# EAGLE library part SD-MOTHERBOARD-HEADER (library nintendo-classic)
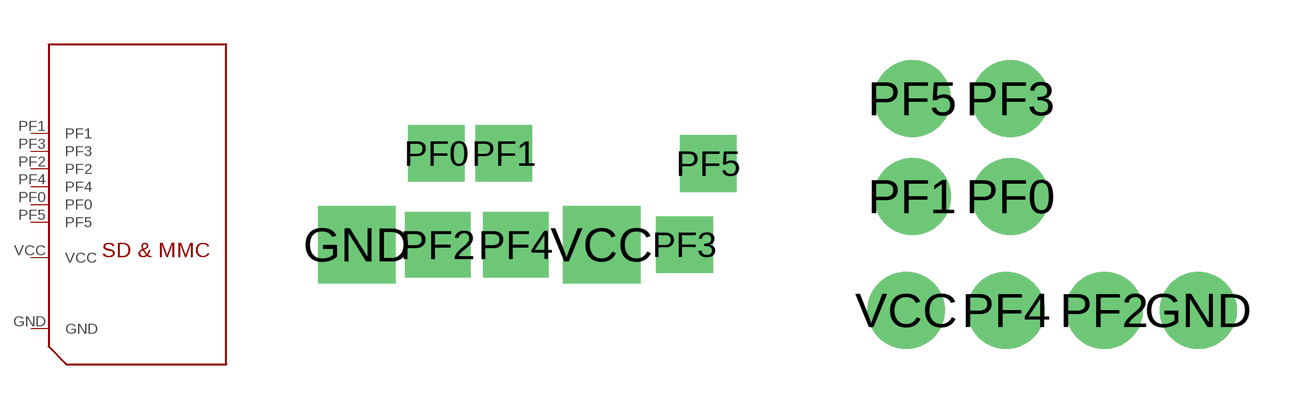
[diagram p5: symbol with the pads of NES-MOTHERBOARD-HEADER; footprints NES-MOTHERBOARD-HEADER, SNES-MOTHERBOARD-HEADER]

Designator prefix -

## SD-MOTHERBOARD-HEADERNES  [NES-MOTHERBOARD-HEADER]
GND  GND  sup
PF0  PF0
PF1  PF1  out
PF2  PF2  in
PF3  PF3  in
PF4  PF4  in
PF5  PF5
VCC  VCC  sup

## SD-MOTHERBOARD-HEADERSNES  [SNES-MOTHERBOARD-HEADER]
Pads as for NES-MOTHERBOARD-HEADER

## Footprint NES-MOTHERBOARD-HEADER (pad centres in mm)
THROUGH-HOLE PAD
drill 1.524 pad 2.1 square: GND 0,0; VCC 7.24,0
drill 1 pad 1.676 square: PF0 2.35,2.7; PF1 4.35,2.7; PF3 9.69,0; PF5 10.39,2.4
drill 1.27 pad 1.93 square: PF2 2.4,0; PF4 4.7,0

## Footprint SNES-MOTHERBOARD-HEADER (pad centres in mm)
THROUGH-HOLE PAD
drill 1 pad 1.93: GND 7.3,0; PF0 2.6,2.85; PF1 0.15,2.85; PF2 4.95,0; PF3 2.6,5.3; PF4 2.5,0; PF5 0.15,5.3; VCC 0,0